# Altium footprint library HFBR2533Z.PcbLib: 1 footprints
Each footprint in its own frame and in the unit in brackets; x right, y up, seen from the top. Pads: shape width x height; smd on the part's side, far side on the other; paste and mask are expansions set on the pad; w line width, h text height; cw(c..) or ccw(c..) is an arc to the next point about the centre after c.
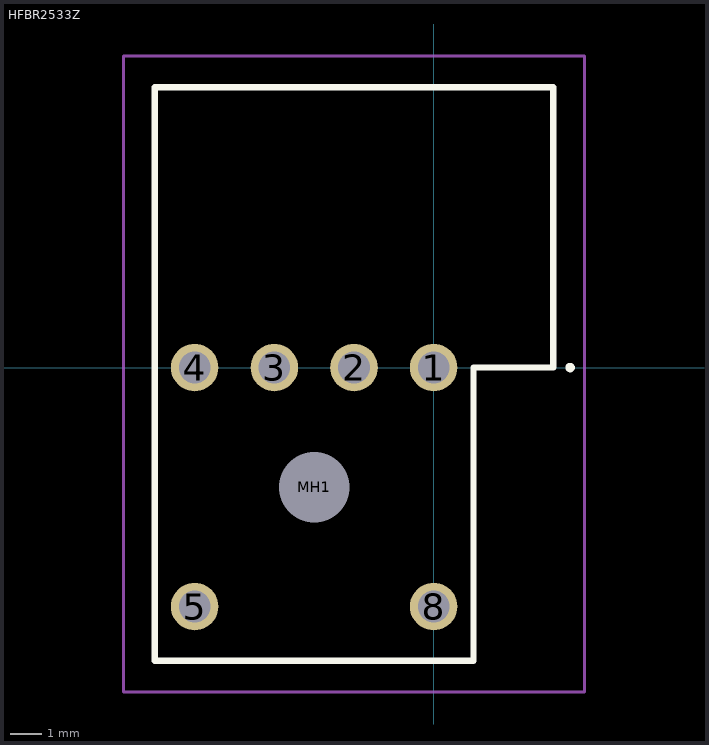
[diagram p0: the footprint, top view; thin cyan lines are the x and y axes]

## HFBR2533Z [mm]
pads (7):
  round 1.515 hole 1.01: 1(0,0) 2(-2.54,0) 3(-5.08,0) 4(-7.62,0) 5(-7.62,-7.62) 8(0,-7.62)
  round 1.125 hole 2.25 unplated: MH1(-3.81,-3.81)
Top Overlay:
  lines w0.2: -8.89,-9.35 -8.89,8.94 ; -8.89,-9.35 -8.89,-9.35 ; -8.89,-9.35 -8.89,8.94 ; -8.89,-9.35 1.27,-9.35 ; -8.89,-9.35 1.27,-9.35 ; -8.89,-9.35 -8.89,-9.35 ; -8.89,8.94 -8.89,8.94 ; -8.89,8.94 3.81,8.94 ; -8.89,8.94 -8.89,8.94 ; -8.89,8.94 3.81,8.94 ; 1.27,-9.35 1.27,-9.35 ; 1.27,-9.35 1.27,-9.35 ; 1.27,-9.35 1.27,0 ; 1.27,-9.35 1.27,0 ; 1.27,0 1.27,0 ; 1.27,0 3.81,0 ; 1.27,0 3.81,0 ; 1.27,0 1.27,0 ; 3.81,0 3.81,0 ; 3.81,0 3.81,0 ; 3.81,0 3.81,8.94 ; 3.81,0 3.81,8.94 ; 3.81,8.94 3.81,8.94 ; 3.81,8.94 3.81,8.94 ; 4.3,0 cw(c4.35,0) 4.4,0 ; 4.3,0 4.3,0 ; 4.3,0 ccw(c4.35,0) 4.4,0 ; 4.3,0 cw(c4.35,0) 4.4,0 ; 4.4,0 4.4,0 ; 4.4,0 4.4,0
Mechanical 15:
  lines w0.1: -8.89,-9.35 -8.89,8.94 ; -8.89,-9.35 -8.89,-9.35 ; -8.89,-9.35 -8.89,8.94 ; -8.89,-9.35 1.27,-9.35 ; -8.89,-9.35 1.27,-9.35 ; -8.89,-9.35 -8.89,-9.35 ; -8.89,8.94 -8.89,8.94 ; -8.89,8.94 1.27,8.94 ; -8.89,8.94 1.27,8.94 ; -8.89,8.94 -8.89,8.94 ; 1.27,-9.35 1.27,-9.35 ; 1.27,-9.35 1.27,-9.35 ; 1.27,-9.35 1.27,0 ; 1.27,-9.35 1.27,0 ; 1.27,0 3.81,0 ; 1.27,0 3.81,0 ; 1.27,0 1.27,0 ; 1.27,0 1.27,0 ; 1.27,8.94 3.81,8.94 ; 1.27,8.94 3.81,8.94 ; 1.27,8.94 1.27,8.94 ; 1.27,8.94 1.27,8.94 ; 3.81,0 3.81,0 ; 3.81,0 3.81,0 ; 3.81,0 3.81,8.94 ; 3.81,0 3.81,8.94 ; 3.81,8.94 3.81,8.94 ; 3.81,8.94 3.81,8.94
Mechanical 20:
  lines w0.1: -9.89,-10.35 4.81,-10.35 4.81,9.94 -9.89,9.94 -9.89,-10.35